# EAGLE library part INDU4B (library radiotubes)
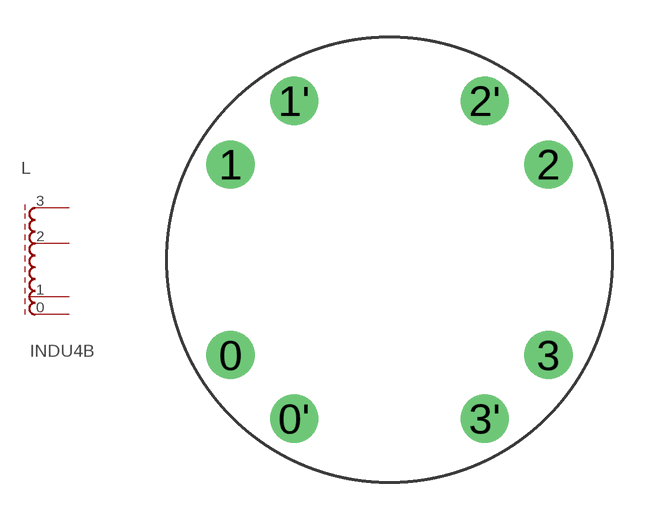
[diagram p124: symbol with the pads of INDU4B; footprint INDU4B]

Designator prefix L

## INDU4B  [INDU4B]
0  0  pas
0'  0'
1  1  pas
1'  1'
2  2  pas
2'  2'
3  3  pas
3'  3'

## Footprint INDU4B (pad centres in mm)
drill 0.813 pad 1.93: 0 -6.35,-3.81; 0' -3.81,-6.35; 1 -6.35,3.81; 1' -3.81,6.35; 2 6.35,3.81; 2' 3.81,6.35; 3 6.35,-3.81; 3' 3.81,-6.35